# EAGLE library part IC_74HC595 (library untitled)
8-bit serial-in parallel out shift register, output latch 3-state
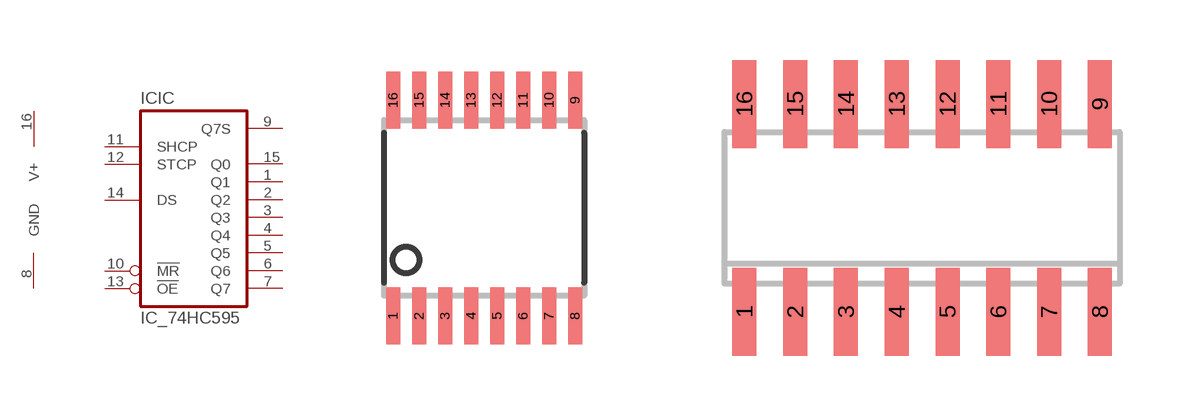
[diagram p29: symbol with the pads of TSSOP-16; footprints TSSOP-16, SOIC-16]

Designator prefix IC; gates IC=74595 SUP=SUPPLY

## IC_74HC595-TSSOP-16  [TSSOP-16]
1  IC:Q1  out
2  IC:Q2  out
3  IC:Q3  out
4  IC:Q4  out
5  IC:Q5  out
6  IC:Q6  out
7  IC:Q7  out
8  SUP:GND  sup
9  IC:Q7S  out
10  IC:!MR  in
11  IC:SHCP  in
12  IC:STCP  in
13  IC:!OE  in
14  IC:DS  in
15  IC:Q0  out
16  SUP:V+  sup

## IC_74HC595-SOIC-16  [SOIC-16]
Pads as for TSSOP-16

## IC_74HC595-DIP-16  [DIL16]
Pads as for TSSOP-16

## Footprint TSSOP-16 (pad centres in mm)
smd 0.35 x 1.43: 1 -2.275,-2.7; 2 -1.625,-2.7; 3 -0.975,-2.7; 4 -0.325,-2.7; 5 0.325,-2.7; 6 0.975,-2.7; 7 1.625,-2.7; 8 2.275,-2.7; 9 2.275,2.7; 10 1.625,2.7; 11 0.975,2.7; 12 0.325,2.7; 13 -0.325,2.7; 14 -0.975,2.7; 15 -1.625,2.7; 16 -2.275,2.7

## Footprint SOIC-16 (pad centres in mm)
smd 0.6 x 2.2: 1 -4.445,-2.6; 2 -3.175,-2.6; 3 -1.905,-2.6; 4 -0.635,-2.6; 5 0.635,-2.6; 6 1.905,-2.6; 7 3.175,-2.6; 8 4.445,-2.6; 9 4.445,2.6; 10 3.175,2.6; 11 1.905,2.6; 12 0.635,2.6; 13 -0.635,2.6; 14 -1.905,2.6; 15 -3.175,2.6; 16 -4.445,2.6

## Footprint DIL16 (pad centres in mm)
DIL-16
drill 0.813 long: 1 -8.89,-3.81; 2 -6.35,-3.81; 3 -3.81,-3.81; 4 -1.27,-3.81; 5 1.27,-3.81; 6 3.81,-3.81; 7 6.35,-3.81; 8 8.89,-3.81; 9 8.89,3.81; 10 6.35,3.81; 11 3.81,3.81; 12 1.27,3.81; 13 -1.27,3.81; 14 -3.81,3.81; 15 -6.35,3.81; 16 -8.89,3.81